# EAGLE library part ADV7513 (library work)
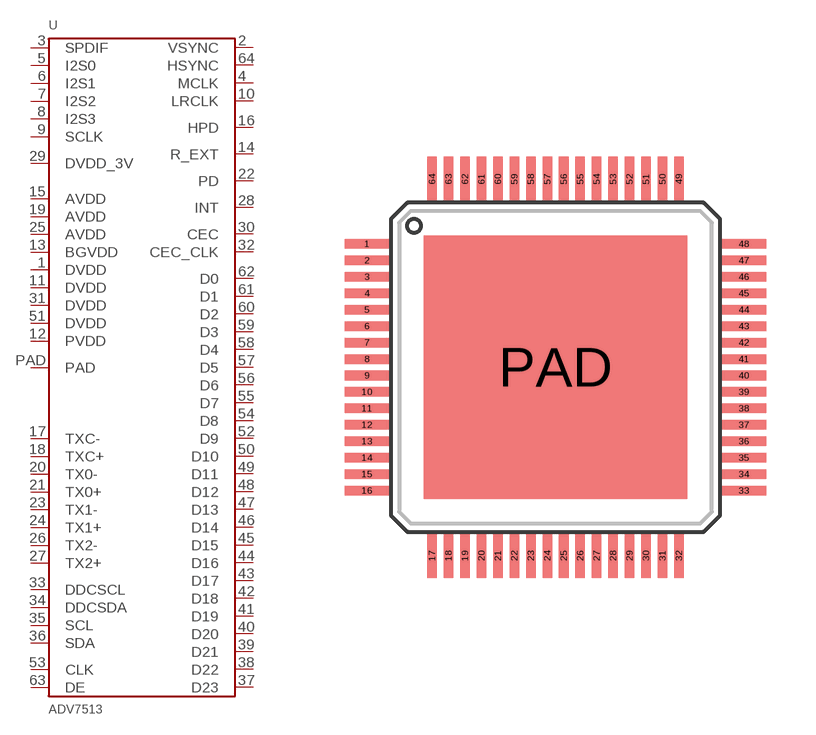
[diagram p42: symbol with the pads of LQFP-64_PAD; footprint LQFP-64_PAD]

Designator prefix U

## ADV7513  [LQFP-64_PAD]
1  DVDD
2  VSYNC
3  SPDIF
4  MCLK
5  I2S0
6  I2S1
7  I2S2
8  I2S3
9  SCLK
10  LRCLK
11  DVDD
12  PVDD
13  BGVDD
14  R_EXT
15  AVDD
16  HPD
17  TXC-
18  TXC+
19  AVDD
20  TX0-
21  TX0+
22  PD
23  TX1-
24  TX1+
25  AVDD
26  TX2-
27  TX2+
28  INT
29  DVDD_3V
30  CEC
31  DVDD
32  CEC_CLK
33  DDCSCL
34  DDCSDA
35  SCL
36  SDA
37  D23
38  D22
39  D21
40  D20
41  D19
42  D18
43  D17
44  D16
45  D15
46  D14
47  D13
48  D12
49  D11
50  D10
51  DVDD
52  D9
53  CLK
54  D8
55  D7
56  D6
57  D5
58  D4
59  D3
60  D2
61  D1
62  D0
63  DE
64  HSYNC
PAD  PAD

## Footprint LQFP-64_PAD (pad centres in mm)
smd 1.35 x 0.29: 1 -5.725,3.75; 2 -5.725,3.25; 3 -5.725,2.75; 4 -5.725,2.25; 5 -5.725,1.75; 6 -5.725,1.25; 7 -5.725,0.75; 8 -5.725,0.25; 9 -5.725,-0.25; 10 -5.725,-0.75; 11 -5.725,-1.25; 12 -5.725,-1.75; 13 -5.725,-2.25; 14 -5.725,-2.75; 15 -5.725,-3.25; 16 -5.725,-3.75; 33 5.725,-3.75; 34 5.725,-3.25; 35 5.725,-2.75; 36 5.725,-2.25; 37 5.725,-1.75; 38 5.725,-1.25; 39 5.725,-0.75; 40 5.725,-0.25; 41 5.725,0.25; 42 5.725,0.75; 43 5.725,1.25; 44 5.725,1.75; 45 5.725,2.25; 46 5.725,2.75; 47 5.725,3.25; 48 5.725,3.75
smd 0.29 x 1.35: 17 -3.75,-5.725; 18 -3.25,-5.725; 19 -2.75,-5.725; 20 -2.25,-5.725; 21 -1.75,-5.725; 22 -1.25,-5.725; 23 -0.75,-5.725; 24 -0.25,-5.725; 25 0.25,-5.725; 26 0.75,-5.725; 27 1.25,-5.725; 28 1.75,-5.725; 29 2.25,-5.725; 30 2.75,-5.725; 31 3.25,-5.725; 32 3.75,-5.725; 49 3.75,5.725; 50 3.25,5.725; 51 2.75,5.725; 52 2.25,5.725; 53 1.75,5.725; 54 1.25,5.725; 55 0.75,5.725; 56 0.25,5.725; 57 -0.25,5.725; 58 -0.75,5.725; 59 -1.25,5.725; 60 -1.75,5.725; 61 -2.25,5.725; 62 -2.75,5.725; 63 -3.25,5.725; 64 -3.75,5.725
smd 8 x 8: PAD 0,0